# Altium schematic symbol library SCH - CONNECTORS - MOLEX - Picoblade 7p.SchLib: 1 symbol
Pins are listed as number, name and electrical type; pins without a type are passive.

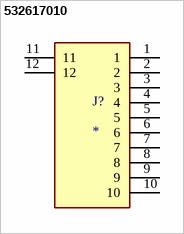
[diagram p0: symbol 532617010]

## 532617010
designator J?
pins: 1, 2, 3, 4, 5, 6, 7, 8, 9, 10, 11, 12